# EAGLE library part BSS138D (library Q-NCH)
DUAL N-CHANNEL ENHANCEMENT MODE FIELD EFFECT TRANSISTOR DIODES, BSS138DW
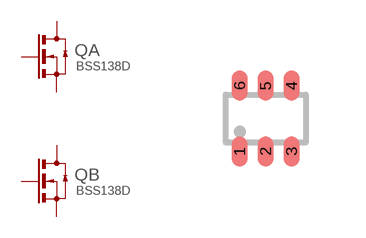
[diagram p0: symbol with the pads of SOT363; footprint SOT363]

Designator prefix Q; gates A=ENHN-CH B=ENHN-CH

## BSS138D  [SOT363]
1  B:S  pas
2  B:G  pas
3  A:D  pas
4  A:S  pas
5  A:G  pas
6  B:D  pas

## Footprint SOT363 (pad centres in mm)
SOT363 6pos, 0.65mm pitch, 1.9mm wide C-C http://www.diodes.com/datasheets/ap02001.pdf
smd 0.4 x 0.75: 1 -0.65,-0.82; 2 0,-0.82; 3 0.65,-0.82; 4 0.65,0.82; 5 0,0.82; 6 -0.65,0.82